# Altium integrated library LQG15HH6N8J02D.IntLib: 1 symbol
Pins are listed as number, name and electrical type; pins without a type are passive.

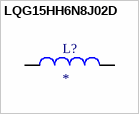
[diagram p0: symbol LQG15HH6N8J02D]

## LQG15HH6N8J02D
designator L?
Ind RF Chip Multi-Layer 6.8nH 5% 100MHz 8Q-Factor Air 300mA 0402 Paper T/R; MP: LQG15HH6N8J02D; Package: None; Price: None; Value: *; Availability: Unavailable
footprint INDC1005X55N
pins: 1, 2